# EAGLE library part COPERNICUS (library UNMODIFIED-SparkFun-GPS)
Trimble Copernicus II GPS Receiver The Trimble Copernicus II delivers proven performance and Trimble quality for a new generation of position-enabled products. It features the TrimCore™ navigation software for extremely fast startup times and high performance in foliage canopy and urban canyon environments. SparkFun Products GPS Module - Copernicus II (12 Channel) <https://www.sparkfun.com/products/10922> (GPS-10922) SparkFun GPS Module - Copernicus II DIP (12 Channel) <https://www.sparkfun.com/products/11858> (GPS-11858)
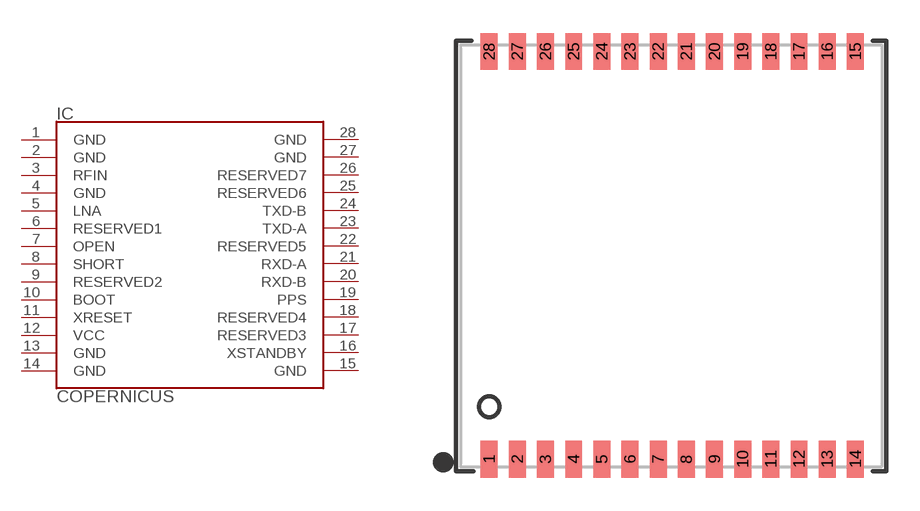
[diagram p0: symbol with the pads of COPERNICUS; footprint COPERNICUS]

Designator prefix IC

## COPERNICUSSMD (PROD_ID: GPS-10735; SF_ID: GPS-10922)  [COPERNICUS]
1  GND
2  GND
3  RFIN
4  GND
5  LNA
6  RESERVED1
7  OPEN
8  SHORT
9  RESERVED2
10  BOOT
11  XRESET
12  VCC
13  GND
14  GND
15  GND
16  XSTANDBY
17  RESERVED3
18  RESERVED4
19  PPS
20  RXD-B
21  RXD-A
22  RESERVED5
23  TXD-A
24  TXD-B
25  RESERVED6
26  RESERVED7
27  GND
28  GND

## Footprint COPERNICUS (pad centres in mm)
Trimble Copernicus and Copernicus II GPS Receiver Datasheet <http://cdn.sparkfun.com/datasheets/Sensors/GPS/63530-10_Rev-B_Manual_Copernicus-II.pdf>
smd 0.762 x 1.651: 1 -8.2,-9.164; 2 -6.93,-9.164; 3 -5.66,-9.164; 4 -4.39,-9.164; 5 -3.12,-9.164; 6 -1.85,-9.164; 7 -0.58,-9.164; 8 0.69,-9.164; 9 1.96,-9.164; 10 3.23,-9.164; 11 4.5,-9.164; 12 5.77,-9.164; 13 7.04,-9.164; 14 8.31,-9.164; 15 8.31,9.2; 16 7.04,9.2; 17 5.77,9.2; 18 4.5,9.2; 19 3.23,9.2; 20 1.96,9.2; 21 0.69,9.2; 22 -0.58,9.2; 23 -1.85,9.2; 24 -3.12,9.2; 25 -4.39,9.2; 26 -5.66,9.2; 27 -6.93,9.2; 28 -8.2,9.2